# Altium footprint library C1016.PcbLib: 1 footprints
Each footprint in its own frame and in the unit in brackets; x right, y up, seen from the top. Pads: shape width x height; smd on the part's side, far side on the other; paste and mask are expansions set on the pad; w line width, h text height; cw(c..) or ccw(c..) is an arc to the next point about the centre after c.
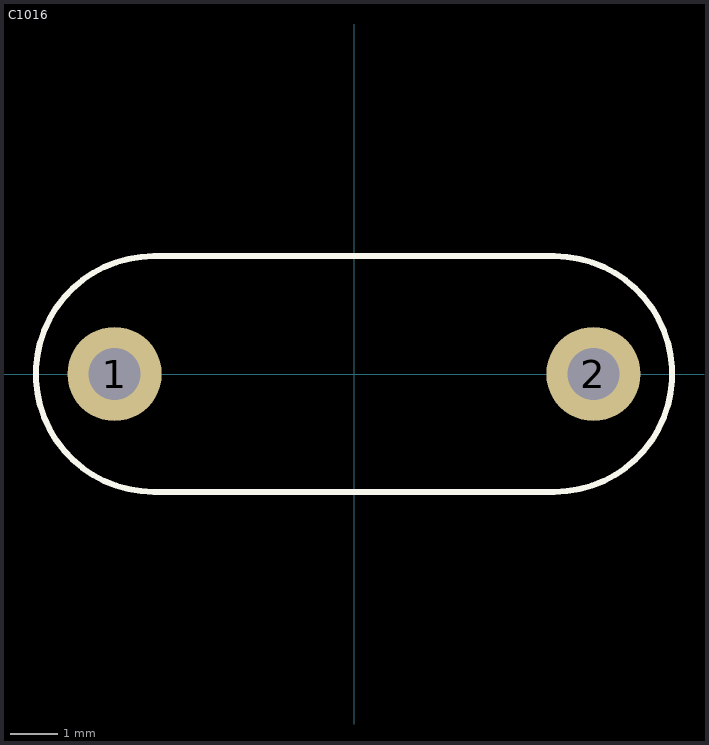
[diagram p0: the footprint, top view; thin cyan lines are the x and y axes]

## C1016 [mm]
height 8.5
pads (2):
  round 2 hole 1.1: 1(-5.08,0) 2(5.08,0)
Top Overlay:
  lines w0.127: -4.25,2.5 4.25,2.5 ; -4.25,2.5 ccw(c-4.25,0) -4.25,-2.5 4.25,-2.5 ccw(c4.25,0) 4.25,2.5
3D body: height 10.92, standoff -3, extent -6.375,-2.35 6.375,2.401